# Altium footprint library FE1.1S_SSOP-28.PcbLib: 1 footprints
Each footprint in its own frame and in the unit in brackets; x right, y up, seen from the top. Pads: shape width x height; smd on the part's side, far side on the other; paste and mask are expansions set on the pad; w line width, h text height; cw(c..) or ccw(c..) is an arc to the next point about the centre after c.
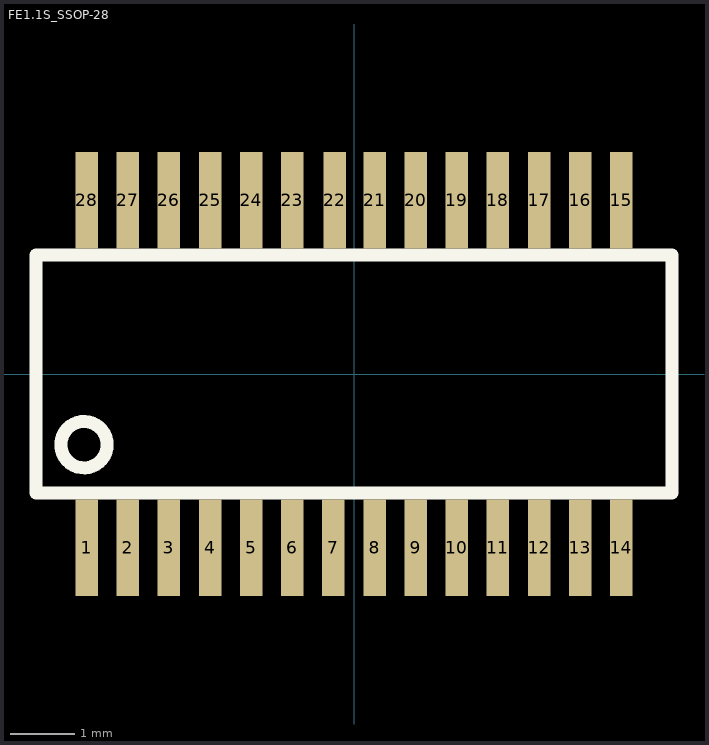
[diagram p0: the footprint, top view; thin cyan lines are the x and y axes]

## FE1.1S_SSOP-28 [mm]
pads (28):
  rect 0.35x1.5 smd: 1(-4.16,-2.7) 2(-3.52,-2.7) 3(-2.88,-2.7) 4(-2.24,-2.7) 5(-1.6,-2.7) 6(-0.96,-2.7) 7(-0.32,-2.7) 8(0.32,-2.7) 9(0.96,-2.7) 10(1.6,-2.7) 11(2.24,-2.7) 12(2.88,-2.7) 13(3.52,-2.7) 14(4.16,-2.7) 15(4.16,2.7) 16(3.52,2.7) 17(2.88,2.7) 18(2.24,2.7) 19(1.6,2.7) 20(0.96,2.7) 21(0.32,2.7) 22(-0.3,2.7) 23(-0.96,2.7) 24(-1.6,2.7) 25(-2.24,2.7) 26(-2.88,2.7) 27(-3.52,2.7) 28(-4.16,2.7)
Top Overlay:
  circle w0.203: c-4.2,-1.1 r0.361
  lines w0.203: -4.95,1.85 -4.95,-1.85 4.95,-1.85 4.95,1.85 -4.93,1.85